# Altium schematic symbol library RECEPTACLE_CONTACT.Schlib: 1 symbol
Pins are listed as number, name and electrical type; pins without a type are passive.

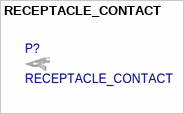
[diagram p0: symbol RECEPTACLE_CONTACT]

## RECEPTACLE_CONTACT
designator P?
Header, 3-Pin